# Altium footprint library Component_Footprints.PcbLib: 38 footprints (part 1 of 3)
Each footprint in its own frame and in the unit in brackets; x right, y up, seen from the top. Pads: shape width x height; smd on the part's side, far side on the other; paste and mask are expansions set on the pad; w line width, h text height; cw(c..) or ccw(c..) is an arc to the next point about the centre after c.
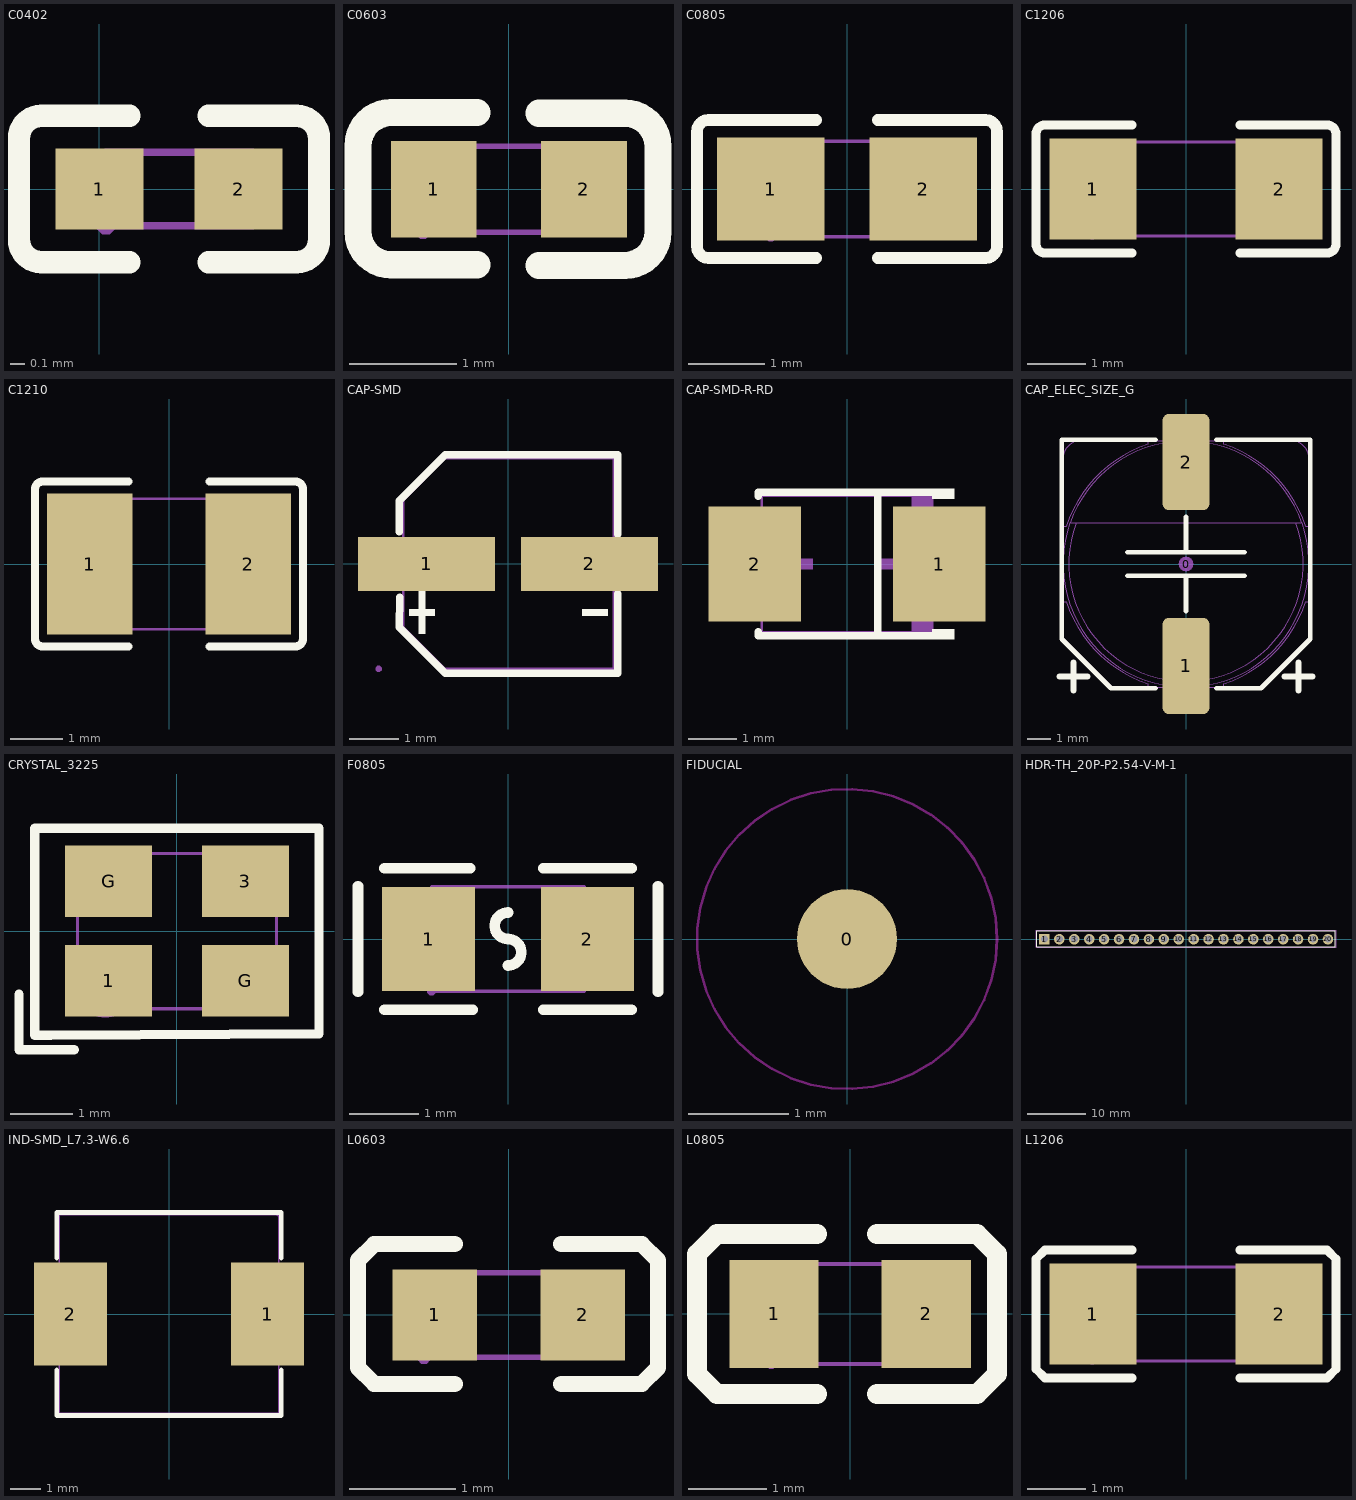
[diagram p0: the footprints below, top view; thin cyan lines are the x and y axes]

## C0402 [mm]
pads (2):
  rect 0.6x0.55 smd paste-100 mask+0.051: 1(0,0) 2(0.95,0)
Top Overlay:
  lines w0.152: -0.395,-0.499 cw(c-0.395,-0.346) -0.547,-0.346 -0.547,0.346 cw(c-0.395,0.346) -0.395,0.499 ; -0.394,-0.499 0.206,-0.499 ; -0.394,0.499 0.206,0.499 ; 0.744,-0.499 1.344,-0.499 ; 0.744,0.499 1.344,0.499 ; 1.345,-0.499 ccw(c1.345,-0.346) 1.497,-0.346 1.497,0.346 ccw(c1.345,0.346) 1.345,0.499
Top Paste:
  region: 0.295,0.222 0.295,-0.228 0.225,-0.278 -0.255,-0.278 -0.305,-0.228 -0.305,0.222 -0.255,0.272 0.225,0.272
  region: 1.25,0.224 1.25,-0.226 1.2,-0.276 0.72,-0.276 0.65,-0.226 0.65,0.224 0.72,0.274 1.2,0.274
Mechanical 15:
  region: 0.105,-0.25 0.105,-0.225 0.07,-0.19 0.02,-0.19 -0.015,-0.225 -0.015,-0.25 -0.015,-0.275 0.02,-0.31 0.07,-0.31 0.105,-0.275
  region: 0.045,-0.25 0.045,0.25 0.295,0.25 0.295,-0.25
  region: 1.045,-0.25 1.045,0.25 0.795,0.25 0.795,-0.25
  lines w0.051: 0.045,-0.25 0.045,0.25 1.045,0.25 1.045,-0.25 0.045,-0.25
3D body "3D_PCB1_2023-04-25.step": height 0.5, standoff 0, extent -0.017,-0.254 0.983,0.246

## C0603 [mm]
pads (2):
  rect 0.8x0.9 smd mask+0.051: 1(-0.7,0) 2(0.7,0)
Top Overlay:
  lines w0.254: -0.296,-0.704 -1.096,-0.704 cw(c-1.096,-0.394) -1.406,-0.394 -1.405,0.406 cw(c-1.096,0.406) -1.096,0.715 -0.296,0.715 ; 0.28,-0.71 1.08,-0.71 ccw(c1.08,-0.4) 1.39,-0.4 1.39,0.4 ccw(c1.08,0.4) 1.08,0.71 0.28,0.71
Mechanical 15:
  region: -0.74,-0.4 -0.74,-0.375 -0.775,-0.34 -0.825,-0.34 -0.86,-0.375 -0.86,-0.4 -0.86,-0.425 -0.825,-0.46 -0.775,-0.46 -0.74,-0.425
  region: -0.8,-0.4 -0.8,0.4 -0.5,0.4 -0.5,-0.4
  region: 0.8,-0.4 0.8,0.4 0.5,0.4 0.5,-0.4
  lines w0.051: -0.8,-0.4 -0.8,0.4 0.8,0.4 0.8,-0.4 -0.8,-0.4
3D body "C0603.step": height 0.8, standoff 0, extent -0.798,-0.395 0.802,0.405

## C0805 [mm]
pads (2):
  rect 1.41x1.35 smd mask+0.051: 1(-1,0) 2(1,0)
Top Overlay:
  lines w0.152: -0.401,-0.904 -1.811,-0.904 cw(c-1.811,-0.751) -1.964,-0.751 -1.964,0.751 cw(c-1.811,0.751) -1.811,0.904 -0.401,0.904 ; 0.401,-0.904 1.811,-0.904 ccw(c1.811,-0.751) 1.964,-0.751 1.964,0.751 ccw(c1.811,0.751) 1.811,0.904 0.401,0.904
Top Paste:
  region: 0.475,-0.62 0.475,-0.2 0.92,-0.2 0.92,0.25 0.48,0.25 0.475,0.66 0.525,0.71 1.675,0.71 1.725,0.66 1.725,-0.62 1.675,-0.67 0.525,-0.67
  region: -1.675,-0.62 -1.675,0.66 -1.625,0.71 -0.475,0.71 -0.425,0.66 -0.42,0.25 -0.87,0.25 -0.87,-0.2 -0.43,-0.2 -0.425,-0.62 -0.475,-0.67 -1.625,-0.67
Mechanical 15:
  region: 1,0.625 1,-0.625 0.5,-0.625 0.5,0.625
  region: -1,-0.625 -1,0.625 -0.5,0.625 -0.5,-0.625
  region: -0.94,-0.625 -0.94,-0.6 -0.975,-0.565 -1.025,-0.565 -1.06,-0.6 -1.06,-0.625 -1.06,-0.65 -1.025,-0.685 -0.975,-0.685 -0.94,-0.65
  lines w0.051: -1,-0.625 1,-0.625 1,0.625 -1,0.625 -1,-0.625
3D body "c0805.step": height 1.3, standoff 0, extent -1.004,-0.657 0.996,0.643

## C1206 [mm]
pads (2):
  rect 1.485x1.728 smd mask+0.051: 1(-1.593,0) 2(1.593,0)
Top Overlay:
  lines w0.152: -0.926,-1.093 -2.411,-1.093 cw(c-2.411,-0.94) -2.564,-0.94 -2.564,0.94 cw(c-2.411,0.94) -2.411,1.093 -0.926,1.093 ; 0.926,-1.093 2.411,-1.093 ccw(c2.411,-0.94) 2.564,-0.94 2.564,0.94 ccw(c2.411,0.94) 2.411,1.093 0.926,1.093
Top Paste:
  region: 0.85,-0.764 0.85,-0.394 0.95,-0.294 1.255,-0.294 1.355,-0.194 1.355,0.194 1.255,0.294 0.95,0.294 0.85,0.394 0.85,0.764 0.95,0.864 2.235,0.864 2.335,0.764 2.335,-0.764 2.235,-0.864 0.95,-0.864
  region: -0.85,-0.764 -0.85,-0.394 -0.95,-0.294 -1.255,-0.294 -1.355,-0.194 -1.355,0.194 -1.255,0.294 -0.95,0.294 -0.85,0.394 -0.85,0.764 -0.95,0.864 -2.235,0.864 -2.335,0.764 -2.335,-0.764 -2.235,-0.864 -0.95,-0.864
Mechanical 15:
  region: -1.54,-0.8 -1.54,-0.775 -1.575,-0.74 -1.625,-0.74 -1.66,-0.775 -1.66,-0.8 -1.66,-0.825 -1.625,-0.86 -1.575,-0.86 -1.54,-0.825
  region: -1.6,-0.8 -1.6,0.8 -1.1,0.8 -1.1,-0.8
  region: 1.6,-0.8 1.6,0.8 1.1,0.8 1.1,-0.8
  lines w0.051: -1.6,-0.8 -1.6,0.8 1.6,0.8 1.6,-0.8 -1.6,-0.8
3D body "3D_PCB1_2023-02-22 (1) v1.step": height 1.3, standoff 0, extent -1.6,-0.795 1.6,0.805

## C1210 [mm]
pads (2):
  rect 1.635x2.7 smd paste-100 mask+0.051: 1(-1.517,0) 2(1.517,0)
Top Overlay:
  lines w0.152: -0.776,-1.579 -2.411,-1.579 cw(c-2.411,-1.426) -2.564,-1.426 -2.564,1.426 cw(c-2.411,1.426) -2.411,1.579 -0.776,1.579 ; 0.776,-1.579 2.411,-1.579 ccw(c2.411,-1.426) 2.564,-1.426 2.564,1.426 ccw(c2.411,1.426) 2.411,1.579 0.776,1.579
Top Paste:
  region: 0.7,-1.25 0.7,-0.559 0.8,-0.459 1.156,-0.459 1.256,-0.359 1.256,0.359 1.156,0.459 0.8,0.459 0.7,0.559 0.7,1.25 0.8,1.35 2.235,1.35 2.335,1.25 2.335,-1.25 2.235,-1.35 0.8,-1.35
  region: -0.7,-1.25 -0.7,-0.559 -0.8,-0.459 -1.156,-0.459 -1.256,-0.359 -1.256,0.359 -1.156,0.459 -0.8,0.459 -0.7,0.559 -0.7,1.25 -0.8,1.35 -2.235,1.35 -2.335,1.25 -2.335,-1.25 -2.235,-1.35 -0.8,-1.35
Mechanical 15:
  region: -1.54,-1.25 -1.54,-1.225 -1.575,-1.19 -1.625,-1.19 -1.66,-1.225 -1.66,-1.25 -1.66,-1.275 -1.625,-1.31 -1.575,-1.31 -1.54,-1.275
  region: -1.6,-1.25 -1.6,1.25 -1,1.25 -1,-1.25
  region: 1.6,-1.25 1.6,1.25 1,1.25 1,-1.25
  lines w0.051: -1.6,-1.25 -1.6,1.25 1.6,1.25 1.6,-1.25 -1.6,-1.25
3D body "3D_PCB1_2023-05-0445444.step": height 0.92, standoff 0.02, extent -1.575,-1.25 1.625,1.27

## CAP-SMD [mm] "BD4.0-L4.3-W4.3-FD-LS5.3"
pads (2):
  rect 2.8x1.1 smd mask+0.051: 1(-1.661,0) 2(1.661,0)
Top Overlay:
  region: -1.818,-0.559 -1.818,-1.419 -1.689,-1.419 -1.689,-0.559
  region: -2.011,-0.925 -2.011,-1.054 -1.495,-1.054 -1.495,-0.925
  region: 2.031,-0.925 2.031,-1.054 1.515,-1.054 1.515,-0.925
  lines w0.152: -2.215,0.66 -2.217,1.29 -1.28,2.225 2.235,2.225 2.235,0.607 ; -2.21,-0.676 -2.217,-1.29 -1.28,-2.226 2.236,-2.226 2.236,-0.607
Mechanical 6:
  region: -1.818,0.43 -1.818,-0.43 -1.689,-0.43 -1.689,0.43
  region: -2.011,0.064 -2.011,-0.065 -1.495,-0.065 -1.495,0.064
  region: 2.031,0.064 2.031,-0.065 1.515,-0.065 1.515,0.064
Mechanical 15:
  region: -2.581,-2.141 -2.581,-2.116 -2.616,-2.081 -2.666,-2.081 -2.701,-2.116 -2.701,-2.141 -2.701,-2.166 -2.666,-2.201 -2.616,-2.201 -2.581,-2.166
  region: 0.609,0.325 2.659,0.325 2.659,-0.325 0.609,-0.325
  region: -2.641,0.325 -0.591,0.325 -0.591,-0.325 -2.641,-0.325
  lines w0.051: -2.141,-1.281 -1.281,-2.141 2.159,-2.141 2.159,2.159 -1.281,2.159 -2.141,1.299 -2.141,-1.281
3D body "3.step": height 5.42, standoff -0.09, extent -2.65,-2.159 2.65,2.141

## CAP-SMD-R-RD [mm] "Tantalum capacitor"
pads (2):
  rect 1.9x2.376 smd mask+0.051: 1(1.899,0) 2(-1.899,0)
Top Overlay:
  region: 1.75,-1.552 1.75,-1.34 2.207,-1.34 2.207,-1.552
  region: 1.75,1.552 1.75,1.34 2.207,1.34 2.207,1.552
  lines w0.152: -1.826,-1.391 -1.826,-1.476 1.826,-1.476 ; -1.826,1.391 -1.826,1.476 1.826,1.476 ; 0.635,-1.476 0.635,1.476
Mechanical 6:
  region: 1.75,1.4 1.75,0.7 1.33,0.7 1.33,1.4
  region: 1.75,-1.4 1.75,-0.7 1.33,-0.7 1.33,-1.4
  region: 1.225,-0.7 1.225,0.7 1.015,0.7 1.015,-0.7
  region: 1.54,-0.105 1.54,0.105 0.7,0.105 0.7,-0.105
  region: -1.54,-0.105 -1.54,0.105 -0.7,0.105 -0.7,-0.105
Mechanical 15:
  region: 1.75,-1.1 1.75,1.1 1.05,1.1 1.05,-1.1
  region: -1.75,-1.1 -1.75,1.1 -1.05,1.1 -1.05,-1.1
  region: 1.81,1.4 1.81,1.425 1.775,1.46 1.725,1.46 1.69,1.425 1.69,1.4 1.69,1.375 1.725,1.34 1.775,1.34 1.81,1.375
  lines w0.051: -1.75,-1.4 1.75,-1.4 1.75,1.4 -1.75,1.4 -1.75,-1.4
3D body "3D_PCB1_2023-02-25.step": height 2, standoff 0, extent -1.825,-1.397 1.875,1.403

## CAP_ELEC_SIZE_G [mm] "Capacitor, polarized, aluminum can; 10.0x10.2mm DxH"
height 10.2
pads (3):
  round 0.635 on Mech15: 0(0,0)
  rrect25% 2x4.1 smd: 1(0,-4.35) 2(0,4.35)
Top Overlay:
  lines w0.203: -2.5,-0.5 2.5,-0.5 ; -2.5,0.5 2.5,0.5 ; -1.3,-5.3 -3.2,-5.3 -5.3,-3.2 -5.3,5.3 -1.3,5.3 ; 0,-2 0,-0.5 ; 0,0.5 0,2 ; 1.3,-5.3 3.2,-5.3 5.3,-3.2 5.3,5.3 1.3,5.3
  lines w0.254: -5.4,-4.8 -4.2,-4.8 ; -4.8,-5.4 -4.8,-4.2 ; 4.2,-4.8 5.4,-4.8 ; 4.8,-5.4 4.8,-4.2
Mechanical 13:
  lines w0.05: -5.25,-1.601 -5.105,-1.601 ccw(c0,0) -1.601,-5.105 -1.601,-5.25 ; -5.25,1.601 -5.105,1.601 cw(c0,0) -1.601,5.105 -1.601,5.25 ; -4.948,1.75 cw(c0,0) 4.948,1.75 ; -4.684,1.75 ccw(c0,0) 4.684,1.75 ; -0.45,-5.25 -0.45,-6 0.45,-6 0.45,-5.25 ; -0.45,5.25 -0.45,6 0.45,6 0.45,5.25 ; 1.601,-5.25 1.601,-5.105 ccw(c0,0) 5.105,-1.601 5.25,-1.601 ; 1.601,5.25 1.601,5.105 cw(c0,0) 5.105,1.601 5.25,1.601 ; -5.25,-3.15 -5.25,4.5 cw(c-4.5,4.5) -4.5,5.25 4.5,5.25 cw(c4.5,4.5) 5.25,4.5 5.25,-3.15 3.15,-5.25 -3.15,-5.25 -5.25,-3.15 ; -4.95,1.75 ccw(c0,0) 4.95,1.75 -4.95,1.75
3D body "CAP Alum Elec Size G.STEP": height 10.5, standoff 0, extent -5.25,-6 5.25,6

## CRYSTAL_3225 [mm] "4P-L3.2-W2.5-BL-2"
pads (4):
  rect 1.4x1.15 smd paste+0 mask+0.051: 1(-1.1,-0.8) 3(1.1,0.8) G(-1.1,0.8) G(1.1,-0.8)
Top Overlay:
  lines w0.152: -2.54,-1.016 -2.54,-1.778 -2.54,-1.905 -1.651,-1.905 ; -2.286,-1.679 -2.03,-1.679 2.286,-1.651 2.286,0 2.286,1.651 -2.286,1.651 -2.286,-1.679
Mechanical 6:
  circle w0.5: c-1.143,-0.889 r0.25
Mechanical 15:
  region: -1.54,-1.25 -1.54,-1.225 -1.575,-1.19 -1.625,-1.19 -1.66,-1.225 -1.66,-1.25 -1.66,-1.275 -1.625,-1.31 -1.575,-1.31 -1.54,-1.275
  region: 0.5,1.15 1.5,1.15 1.5,0.35 0.5,0.35
  region: -1.5,1.15 -0.5,1.15 -0.5,0.35 -1.5,0.35
  region: -1.5,-0.35 -0.5,-0.35 -0.5,-1.15 -1.5,-1.15
  region: 0.5,-0.35 1.5,-0.35 1.5,-1.15 0.5,-1.15
  lines w0.051: -1.6,-1.25 -1.6,1.25 1.6,1.25 1.6,-1.25 -1.6,-1.25

## F0805 [mm]
pads (2):
  rect 1.335x1.5 smd paste-100 mask+0.051: 1(-1.142,0) 2(1.142,0)
Top Overlay:
  lines w0.152: -2.159,-0.762 -2.159,0.762 ; -1.778,-1.016 -0.508,-1.016 ; -1.778,1.016 -0.545,1.016 ; 0,-0.381 ccw(c0,-0.191) 0,0 cw(c0,0.191) 0,0.381 ; 0.508,-1.016 1.778,-1.016 ; 0.508,1.016 1.778,1.016 ; 2.159,-0.762 2.159,0.762
Top Paste:
  region: -1.675,-0.62 -1.675,0.66 -1.625,0.71 -0.475,0.71 -0.425,0.66 -0.42,0.25 -0.87,0.25 -0.87,-0.2 -0.43,-0.2 -0.425,-0.62 -0.475,-0.67 -1.625,-0.67
  region: 0.475,-0.62 0.475,-0.2 0.92,-0.2 0.92,0.25 0.48,0.25 0.475,0.66 0.525,0.71 1.675,0.71 1.725,0.66 1.725,-0.62 1.675,-0.67 0.525,-0.67
Mechanical 15:
  region: -1.1,-0.81 -1.125,-0.81 -1.16,-0.775 -1.16,-0.725 -1.125,-0.69 -1.1,-0.69 -1.075,-0.69 -1.04,-0.725 -1.04,-0.775 -1.075,-0.81 -1.1,-0.81
  region: -1.1,0.75 -0.9,0.75 -0.9,-0.75 -1.1,-0.75
  region: 1.1,-0.75 0.9,-0.75 0.9,0.75 1.1,0.75
  lines w0.051: -1.1,-0.75 -1.1,0.75 1.1,0.75 1.1,-0.75 -1.1,-0.75
3D body "3D_PCB1_2023-08-16 (1).step": height 0.8, standoff 0, extent -1.05,-0.711 1.05,0.689

## FIDUCIAL [mm] "1mm fiducial with 3mm keepout"
pads (1):
  round 1 smd paste-1 mask+0.5: 0(0,0)
Keep-Out Layer:
  circle w0.025: c0,0 r1.5

## HDR-TH_20P-P2.54-V-M-1 [mm]
pads (20):
  rect 1.801x1.801 hole 1.199 paste+0 mask+0.051: 1(-24.13,0)
  round 1.801 hole 1.199 paste+0 mask+0.051: 2(-21.59,0) 3(-19.05,0) 4(-16.51,0) 5(-13.97,0) 6(-11.43,0) 7(-8.89,0) 8(-6.35,0) 9(-3.81,0) 10(-1.27,0) 11(1.27,0) 12(3.81,0) 13(6.35,0) 14(8.89,0) 15(11.43,0) 16(13.97,0) 17(16.51,0) 18(19.05,0) 19(21.59,0) 20(24.13,0)
Top Overlay:
  lines w0.203: -25.4,-1.27 -25.4,1.397 25.4,1.397 25.4,1.27 25.4,-1.27 -25.4,-1.27
Mechanical 15:
  drawing of 25 lines, arcs and shapes, not listed

## IND-SMD_L7.3-W6.6 [mm] "L7.3-W6.6"
pads (2):
  rect 2.424x3.42 smd mask+0.051: 1(3.278,0) 2(-3.278,0)
Top Overlay:
  lines w0.152: -3.726,-1.862 -3.726,-3.376 3.726,-3.376 3.726,-1.862 ; -3.726,1.862 -3.726,3.376 3.726,3.376 3.726,1.862
Mechanical 15:
  region: 3.71,3.3 3.71,3.325 3.675,3.36 3.625,3.36 3.59,3.325 3.59,3.3 3.59,3.275 3.625,3.24 3.675,3.24 3.71,3.275
  region: -3.65,-1.5 -3.65,1.5 -2.15,1.5 -2.15,-1.5
  region: 3.65,-1.5 3.65,1.5 2.15,1.5 2.15,-1.5
  lines w0.051: -3.65,-3.3 -3.65,3.3 3.65,3.3 3.65,-3.3 -3.65,-3.3
3D body "uh.step": height 2.9, standoff 0, extent -3.55,-3.302 3.55,3.298

## L0603 [mm]
pads (2):
  rect 0.8x0.864 smd paste-100 mask+0.051: 1(-0.7,0) 2(0.7,0)
Top Overlay:
  lines w0.152: -0.51,-0.651 -1.272,-0.651 -1.424,-0.499 -1.424,0.517 -1.272,0.67 -0.51,0.67 ; 0.496,-0.651 1.258,-0.651 1.411,-0.499 1.411,0.517 1.258,0.67 0.496,0.67
Top Paste:
  region: -0.252,0.143 -0.252,-0.134 -0.526,-0.427 -1.029,-0.427 -1.093,-0.363 -1.093,0.373 -1.029,0.437 -0.526,0.437
  region: 0.264,0.154 0.264,-0.122 0.538,-0.416 1.042,-0.416 1.106,-0.352 1.106,0.384 1.042,0.448 0.538,0.448
Mechanical 15:
  region: -0.74,-0.4 -0.74,-0.375 -0.775,-0.34 -0.825,-0.34 -0.86,-0.375 -0.86,-0.4 -0.86,-0.425 -0.825,-0.46 -0.775,-0.46 -0.74,-0.425
  region: 0.8,-0.4 0.5,-0.4 0.5,0.4 0.8,0.4
  region: -0.5,-0.4 -0.8,-0.4 -0.8,0.4 -0.5,0.4
  lines w0.051: -0.8,-0.4 0.8,-0.4 0.8,0.4 -0.8,0.4 -0.8,-0.4

## L0805 [mm]
pads (2):
  rect 1.133x1.377 smd paste-100 mask+0.051: 1(-0.966,0) 2(0.966,0)
Top Overlay:
  lines w0.254: -0.421,-1.016 -1.691,-1.016 -1.945,-0.762 -1.945,-0.635 -1.945,0.762 -1.691,1.016 -1.564,1.016 -0.421,1.016 ; 0.341,-1.016 1.484,-1.016 1.611,-1.016 1.865,-0.762 1.865,0.635 1.865,0.762 1.611,1.016 0.341,1.016
Top Paste:
  region: -0.36,-0.22 -0.36,0.22 -0.745,0.689 -1.433,0.689 -1.533,0.589 -1.533,-0.588 -1.433,-0.688 -0.745,-0.688
  region: 0.36,-0.22 0.36,0.22 0.745,0.689 1.433,0.689 1.533,0.589 1.533,-0.588 1.433,-0.688 0.745,-0.688
Mechanical 15:
  region: -0.94,-0.637 -0.94,-0.613 -0.975,-0.577 -1.025,-0.577 -1.06,-0.613 -1.06,-0.637 -1.06,-0.662 -1.025,-0.697 -0.975,-0.697 -0.94,-0.662
  region: 1,-0.637 1,0.638 0.6,0.638 0.6,-0.637
  region: -1,-0.637 -1,0.638 -0.6,0.638 -0.6,-0.637
  lines w0.051: -1,-0.637 -1,0.638 1,0.638 1,-0.637 -1,-0.637

## L1206 [mm]
pads (2):
  rect 1.485x1.728 smd paste-100 mask+0.051: 1(-1.593,0) 2(1.593,0)
Top Overlay:
  lines w0.152: -0.926,-1.093 -2.411,-1.093 -2.564,-0.94 -2.564,0.94 -2.411,1.093 -0.926,1.093 ; 0.926,-1.093 2.411,-1.093 2.564,-0.94 2.564,0.94 2.411,1.093 0.926,1.093
Top Paste:
  region: -0.85,-0.764 -0.85,-0.394 -0.95,-0.294 -1.255,-0.294 -1.355,-0.194 -1.355,0.194 -1.255,0.294 -0.95,0.294 -0.85,0.394 -0.85,0.764 -0.95,0.864 -2.235,0.864 -2.335,0.764 -2.335,-0.764 -2.235,-0.864 -0.95,-0.864
  region: 0.85,-0.764 0.85,-0.394 0.95,-0.294 1.255,-0.294 1.355,-0.194 1.355,0.194 1.255,0.294 0.95,0.294 0.85,0.394 0.85,0.764 0.95,0.864 2.235,0.864 2.335,0.764 2.335,-0.764 2.235,-0.864 0.95,-0.864
Mechanical 15:
  region: 1.6,-0.8 1.6,0.8 1.1,0.8 1.1,-0.8
  region: -1.6,-0.8 -1.6,0.8 -1.1,0.8 -1.1,-0.8
  region: -1.54,-0.8 -1.54,-0.775 -1.575,-0.74 -1.625,-0.74 -1.66,-0.775 -1.66,-0.8 -1.66,-0.825 -1.625,-0.86 -1.575,-0.86 -1.54,-0.825
  lines w0.051: -1.6,-0.8 1.6,-0.8 1.6,0.8 -1.6,0.8 -1.6,-0.8